# EAGLE library part 693072010801 (library 632723100011_Eagle_WR-USB_rev19b)
WR-CRD MICRO SD CARD CONNECTOR HINGE 8PINS=>Code : Con_I-O_COM_CRD_SD_Micro_696072010801 <http://katalog.we-online.de/media/images/eican/Con_I-O_COM_CRD_SD_Micro_696072010801_pf2.jpg> Details see: http://katalog.we-online.de/en/em/CRD_SD_MICRO_HINGEL_8_PINS/693072010801 Created 2014-07-09, Karrer Zheng 2014 (C) Würth Elektronik
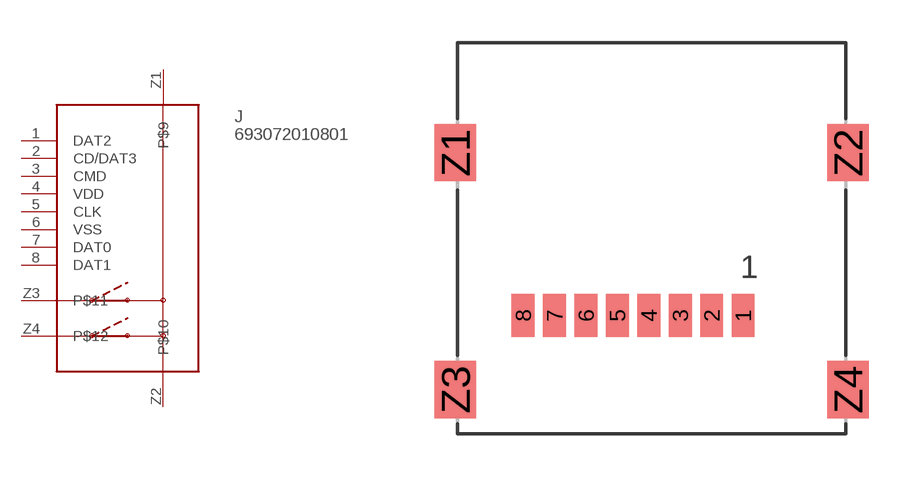
[diagram p92: symbol with the pads of 693072010801; footprint 693072010801]

Designator prefix J

## 693072010801  [693072010801]
1  DAT2
2  CD/DAT3
3  CMD
4  VDD
5  CLK
6  VSS
7  DAT0
8  DAT1
Z1  P$9
Z2  P$10
Z3  P$11
Z4  P$12

## Footprint 693072010801 (pad centres in mm)
WR-CRD MICRO SD CARD CONNECTOR HINGE 8PINS
smd 0.8 x 1.5: 1 7.7,0; 2 6.6,0; 3 5.5,0; 4 4.4,0; 5 3.3,0; 6 2.2,0; 7 1.1,0; 8 0,0
smd 1.45 x 2: Z1 -2.375,5.7; Z2 11.375,5.7; Z3 -2.375,-2.6; Z4 11.375,-2.6